# EAGLE library part ARM_JTAG/SWD_HEADER_10_PIN (library usevolt)
ARM Olimex Debugger 10 pin header, 0.05 inch
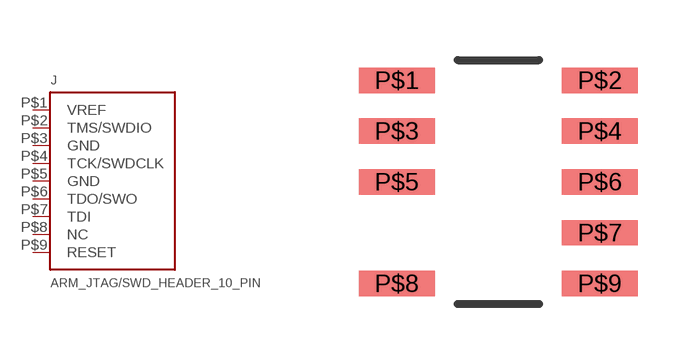
[diagram p16: symbol with the pads of ARM_10_PIN_JTAG/SWD_CONNECTOR; footprint ARM_10_PIN_JTAG/SWD_CONNECTOR]

Designator prefix J

## ARM_JTAG/SWD_HEADER_10_PINSMD  [ARM_10_PIN_JTAG/SWD_CONNECTOR]
P$1  VREF
P$2  TMS/SWDIO
P$3  GND
P$4  TCK/SWDCLK
P$5  GND
P$6  TDO/SWO
P$7  TDI
P$8  NC
P$9  RESET

## Footprint ARM_10_PIN_JTAG/SWD_CONNECTOR (pad centres in mm)
smd 1.905 x 0.635: P$1 -1.27,0; P$2 3.81,0; P$3 -1.27,-1.27; P$4 3.81,-1.27; P$5 -1.27,-2.54; P$6 3.81,-2.54; P$7 3.81,-3.81; P$8 -1.27,-5.08; P$9 3.81,-5.08